# EAGLE library part SPARKFUN-CONNECTORS_AVR_SPI_PROG_3X2 (library RedBoard_Edge)
AVR ISP 6 Pin This is the reduced ISP connector for AVR programming. Common on Arduino. This footprint will take up less PCB space and can be used with a 10-pin to 6-pin adapter such as SKU: BOB-08508 **Special note about "TEST_POINT" package. The stop mask is on the top side, so if you want your programming test points to be on the bottom of your board, make sure to place this package on the bottom side of the board. This also ensure that the orientation to program from the bottom side will be correct.
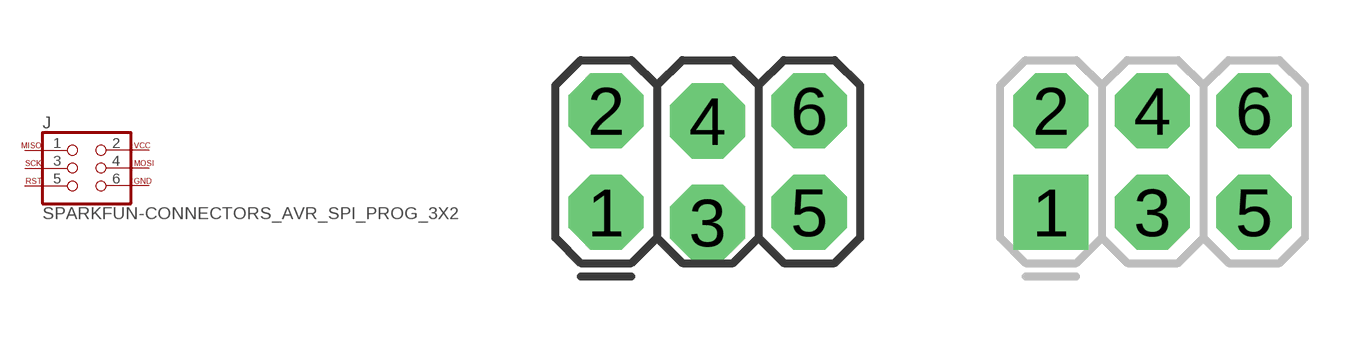
[diagram p0: symbol with the pads of SPARKFUN-CONNECTORS_2X3_LOCK; footprints SPARKFUN-CONNECTORS_2X3_LOCK, SPARKFUN-CONNECTORS_2X3-NS]

Designator prefix J

## SPARKFUN-CONNECTORS_AVR_SPI_PROG_3X22X3_LOCK  [SPARKFUN-CONNECTORS_2X3_LOCK]
1  1  pas
2  2  pas
3  3  pas
4  4  pas
5  5  pas
6  6  pas

## SPARKFUN-CONNECTORS_AVR_SPI_PROG_3X2NS  [SPARKFUN-CONNECTORS_2X3-NS]
Pads as for SPARKFUN-CONNECTORS_2X3_LOCK

## SPARKFUN-CONNECTORS_AVR_SPI_PROG_3X2OFFSET_PADS  [SPARKFUN-CONNECTORS_2X3_OFFSET]
Pads as for SPARKFUN-CONNECTORS_2X3_LOCK

## SPARKFUN-CONNECTORS_AVR_SPI_PROG_3X2PTH  [SPARKFUN-CONNECTORS_2X3]
Pads as for SPARKFUN-CONNECTORS_2X3_LOCK

## SPARKFUN-CONNECTORS_AVR_SPI_PROG_3X2SMD (PROD_ID: CONN-11290)  [SPARKFUN-CONNECTORS_2X3_SMT_POSTS]
Pads as for SPARKFUN-CONNECTORS_2X3_LOCK

## SPARKFUN-CONNECTORS_AVR_SPI_PROG_3X2TESTPOINTS  [SPARKFUN-CONNECTORS_2X3_TEST_POINTS]
Pads as for SPARKFUN-CONNECTORS_2X3_LOCK

## Footprint SPARKFUN-CONNECTORS_2X3_LOCK (pad centres in mm)
drill 1.016 pad 1.88 octagon: 1 0,0; 2 0,2.54; 3 2.54,-0.254; 4 2.54,2.286; 5 5.08,0; 6 5.08,2.54

## Footprint SPARKFUN-CONNECTORS_2X3-NS (pad centres in mm)
drill 1.016 pad 1.88 square: 1 -2.54,-1.27
drill 1.016 pad 1.88 octagon: 2 -2.54,1.27; 3 0,-1.27; 4 0,1.27; 5 2.54,-1.27; 6 2.54,1.27

## Footprint SPARKFUN-CONNECTORS_2X3_OFFSET (pad centres in mm)
drill 1.118 pad 1.88 offset: 1 -2.54,-1.27; 2 -2.54,1.27; 3 0,-1.27; 4 0,1.27; 5 2.54,-1.27; 6 2.54,1.27

## Footprint SPARKFUN-CONNECTORS_2X3 (pad centres in mm)
drill 1.016 pad 1.88 octagon: 1 0,0; 2 0,2.54; 3 2.54,0; 4 2.54,2.54; 5 5.08,0; 6 5.08,2.54

## Footprint SPARKFUN-CONNECTORS_2X3_SMT_POSTS (pad centres in mm)
4UCON 15881 Male .1" spaced SMT Keying posts into board
smd 1 x 3.17: 1 -2.54,-2.54; 2 -2.54,2.54; 3 0,-2.54; 4 0,2.54; 5 2.54,-2.54; 6 2.54,2.54
hole 1.8 at -1.27,0
hole 1.8 at 1.27,0

## Footprint SPARKFUN-CONNECTORS_2X3_TEST_POINTS (pad centres in mm)
drill 0.508: 1 -2.54,-1.27; 2 -2.54,1.27; 3 0,-1.27; 4 0,1.27; 5 2.54,-1.27; 6 2.54,1.27